# Altium schematic symbol library OPA1622.Schlib: 1 symbol
Pins are listed as number, name and electrical type; pins without a type are passive.

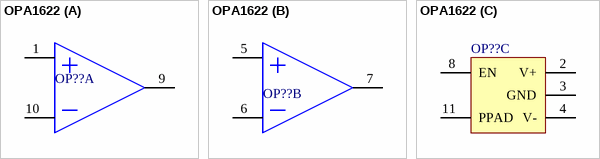
[diagram p0: symbol OPA1622]

## OPA1622
designator OP??
part A pins: 1 +INA, 9 OUTA, 10 -INA
part B pins: 5 +INB, 6 -INB, 7 OUTB
part C pins: 2 V+, 3 GND, 4 V-, 8 EN, 11 PPAD